# Altium schematic symbol library TBP04R1-500-15BE.SchLib: 1 symbol
Pins are listed as number, name and electrical type; pins without a type are passive.

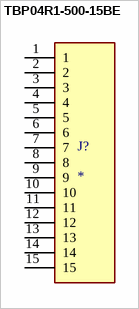
[diagram p0: symbol TBP04R1-500-15BE]

## TBP04R1-500-15BE
designator J?
2~24 Poles, Pluggable, Receptacle, Horizontal, 5.0 Pitch, Terminal Block Connector; MF: Same Sky; MP: TBP04R1-500-15BE; SnapEDA_Link: https://www.snapeda.com/parts/TBP04R1-500-15BE/Same+Sky/view-part/?ref=snap; Package: None; Value: *; Check_prices: https://www.snapeda.com/parts/TBP04R1-500-15BE/Same+Sky/view-part/?ref=eda
footprint CUI_TBP04R1-500-15BE
pins: 1, 2, 3, 4, 5, 6, 7, 8, 9, 10, 11, 12, 13, 14, 15